# Altium footprint library Other.PcbLib: 35 footprints (part 3 of 3)
Each footprint in its own frame and in the unit in brackets; x right, y up, seen from the top. Pads: shape width x height; smd on the part's side, far side on the other; paste and mask are expansions set on the pad; w line width, h text height; cw(c..) or ccw(c..) is an arc to the next point about the centre after c.
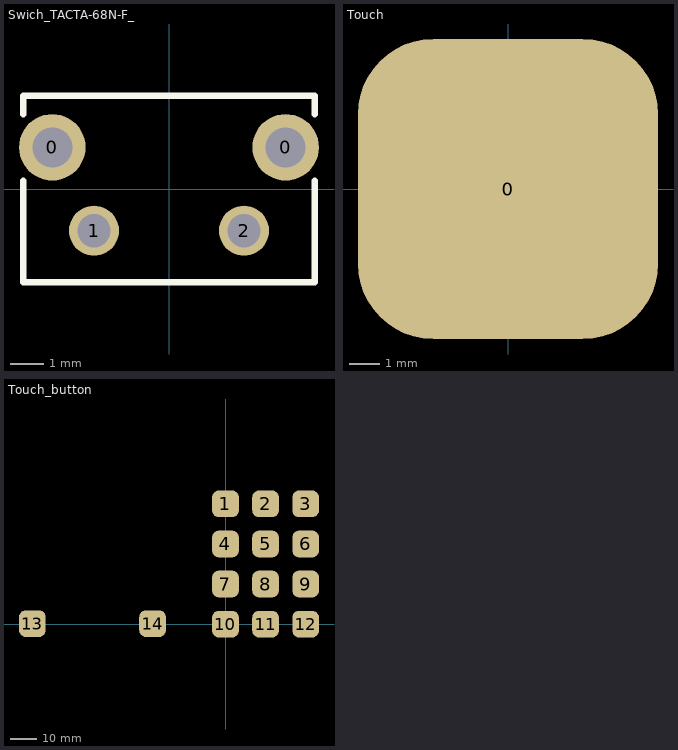
[diagram p2: the footprints below, top view; thin cyan lines are the x and y axes]

## Swich_TACTA-68N-F_ [mm]
pads (4):
  round 2 hole 1.2: 0(-3.5,1.25) 0(3.5,1.25)
  round 1.5 hole 1: 1(-2.25,-1.25) 2(2.25,-1.25)
Top Overlay:
  lines w0.2: -4.375,2.25 -4.375,2.8 4.375,2.8 4.375,2.25 ; 4.375,0.25 4.375,-2.8 -4.375,-2.8 -4.375,0.25 ; -4.375,0.25 -4.375,0.25
3D body "Tact_Switch.stp": height 7.4, standoff -3.5, extent -4.25,-9.53 4.25,2.87

## Touch [mm] "Touch_Button"
pads (1):
  rrect50% 10x10 smd: 0(0,0)

## Touch_button [mm]
pads (14):
  rrect50% 10x10 smd: 1(-0.041,45.106) 2(14.959,45.106) 3(29.959,45.106) 4(-0.041,30.106) 5(14.959,30.106) 6(29.959,30.106) 7(-0.041,15.106) 8(14.959,15.106) 9(29.959,15.106) 10(-0.041,0.106) 11(14.959,0.106) 12(29.959,0.106) 13(-72.326,0.277) 14(-27.326,0.277)